# Altium footprint library PcbLib1.PcbLib: 5 footprints
Each footprint in its own frame and in the unit in brackets; x right, y up, seen from the top. Pads: shape width x height; smd on the part's side, far side on the other; paste and mask are expansions set on the pad; w line width, h text height; cw(c..) or ccw(c..) is an arc to the next point about the centre after c.
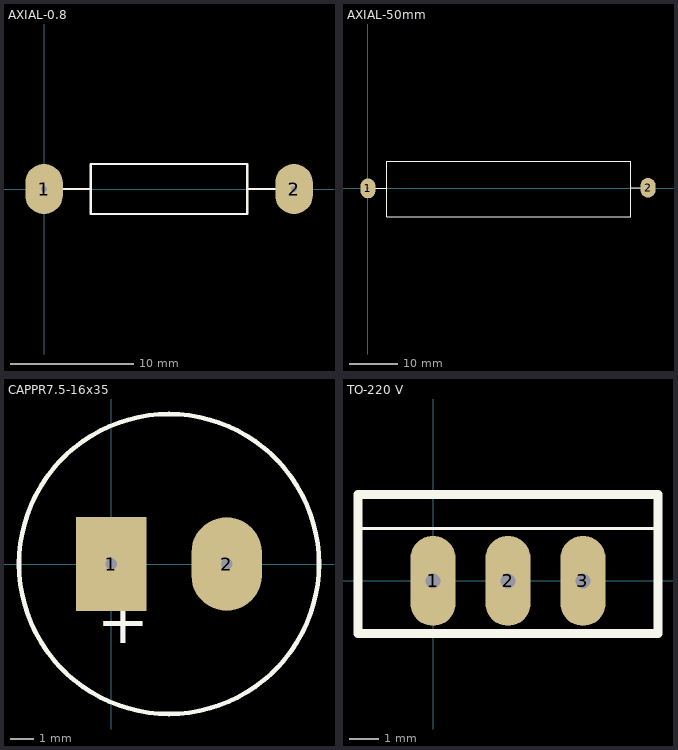
[diagram p0: the footprints below, top view; thin cyan lines are the x and y axes]

## AXIAL-0.8 [mil] "Adjustable Inductor; 2 Leads"
height 160
pads (2):
  oval 120x160 hole 19.68: 1(0,0) 2(800,0)
Top Overlay:
  lines w7.87: 50,0 150,0 ; 650,0 750,0 ; 150,-80 150,80 650,80 650,-80 150,-80

## AXIAL-50mm [mil] "Adjustable Inductor; 2 Leads"
height 160
pads (2):
  oval 120x160 hole 19.68: 1(0,0) 2(2260,5)
Top Overlay:
  lines w7.87: 50,0 150,0 ; 2125,5 2225,5 ; 150,-230 2120,-230 2120,220 150,220 150,-230

## CAPPR7.5-16x35 [mil] "Capacitor, Electrolytic, Radial; Body 16 x 35 mm (Dia.xH typ); Pin Spacing 7.5 mm (typ)"
pads (2):
  rect 120x160 hole 19.68: 1(0,0)
  oval 120x160 hole 19.68: 2(196.85,0)
Top Overlay:
  circle w7.87: c98.43,0 r255.91
  text "+" at -25,-135 h78.74

## PCBComponent_1 [mil]

## TO-220 V [mil] "TO-220 Vertical"
height 787.4
pads (3):
  oval 60x120 hole 19.68: 1(0,0) 2(100,0) 3(200,0)
Top Overlay:
  lines w4: -100,70 300,70
  lines w12: -100,-70 -100,70 -100,115 300,115 300,70 300,-70 -100,-70